# Altium schematic symbol library PTN78060W.SchLib: 1 symbol
Pins are listed as number, name and electrical type; pins without a type are passive.

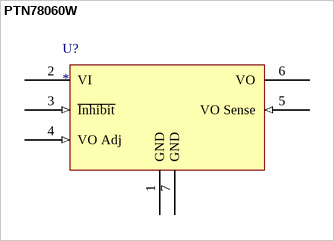
[diagram p0: symbol PTN78060W]

## PTN78060W
designator U?
pins: 1 GND (power), 2 VI (power), 3 ~{Inhibit} (in), 4 VO Adj (in), 5 VO Sense (in), 6 VO (power), 7 GND (power)